# EAGLE library part NL27WZ17 (library IC)
On Semiconductor NL27WZ17 Dual Non-Inverting Schmitt Trigger Buffer
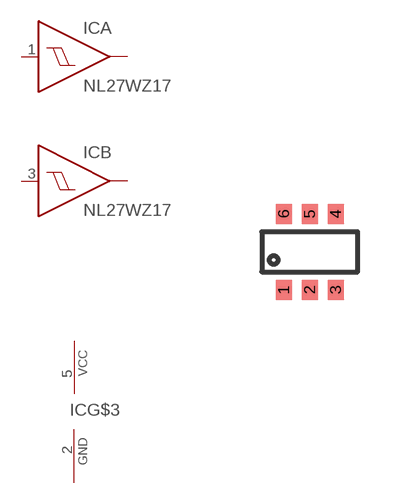
[diagram p123: symbol with the pads of SC70-6L; footprint SC70-6L]

Designator prefix IC; gates A=BUFS B=BUFS G$3=PWR-VCC-GND

## NL27WZ17DF  [SC70-6L]
1  A:I  in
2  G$3:GND  pwr
3  B:I  in
4  B:OUT  out
5  G$3:VCC  pwr
6  A:OUT  out

## Footprint SC70-6L (pad centres in mm)
6-Lead SC70, EIAJ SC88, 1.25mm Wide
smd 0.4 x 0.5: 1 -0.65,-0.95; 2 0,-0.95; 3 0.65,-0.95; 4 0.65,0.95; 5 0,0.953; 6 -0.65,0.95